# Altium schematic symbol library FR207GH.SchLib: 1 symbol
Pins are listed as number, name and electrical type; pins without a type are passive.

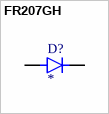
[diagram p0: symbol FR207GH]

## FR207GH
designator D?
500ns, 2A, 1000V, Fast Recovery Rectifier; MF: Taiwan Semiconductor Corporation; MP: FR207GH; SnapEDA_Link: https://www.snapeda.com/parts/FR207GH/Taiwan+Semiconductor/view-part/?ref=snap; Package: DO-15 Taiwan Semiconductor; Value: *; Check_prices: https://www.snapeda.com/parts/FR207GH/Taiwan+Semiconductor/view-part/?ref=eda
footprint DIOAD1300W80L670D310
pins: A, C K